# Altium footprint library FT_lib.PcbLib: 19 footprints (part 2 of 2)
Each footprint in its own frame and in the unit in brackets; x right, y up, seen from the top. Pads: shape width x height; smd on the part's side, far side on the other; paste and mask are expansions set on the pad; w line width, h text height; cw(c..) or ccw(c..) is an arc to the next point about the centre after c.
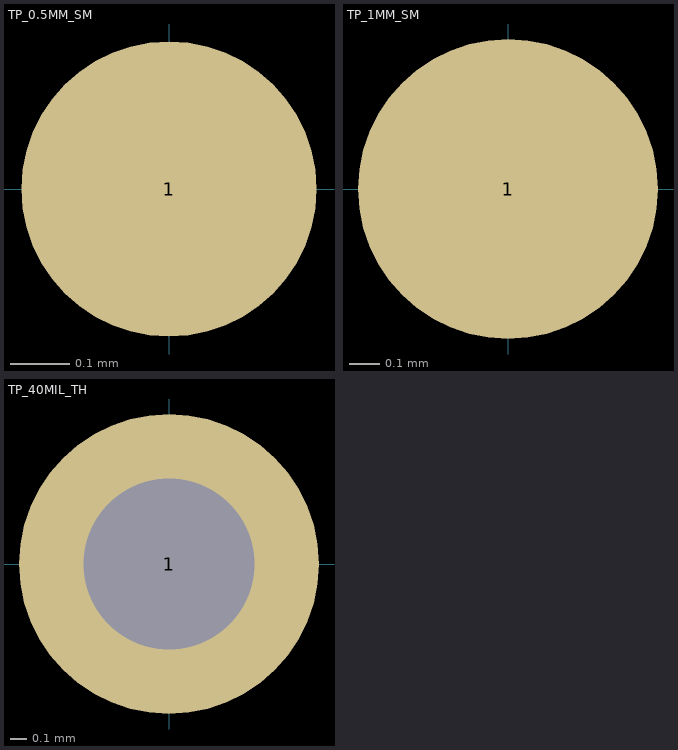
[diagram p1: the footprints below, top view; thin cyan lines are the x and y axes]

## TP_0.5MM_SM [mm] "0.5MM Surface Mount TP"
pads (1):
  round 0.5 smd: 1(0,0)

## TP_1MM_SM [mm] "1MM Surface Mount TP"
pads (1):
  round 1 smd: 1(0,0)

## TP_40MIL_TH [mil] "PC TEST POINT MINIATURE BLACK"
pads (1):
  round 70 hole 40: 1(0,0)
Top Assembly:
  text "'.Designator'" at -20,-5 h10
Bottom Assembly:
  circle w5: c0,0 r30